# Altium footprint library LM2596.PcbLib: 1 footprints
Each footprint in its own frame and in the unit in brackets; x right, y up, seen from the top. Pads: shape width x height; smd on the part's side, far side on the other; paste and mask are expansions set on the pad; w line width, h text height; cw(c..) or ccw(c..) is an arc to the next point about the centre after c.
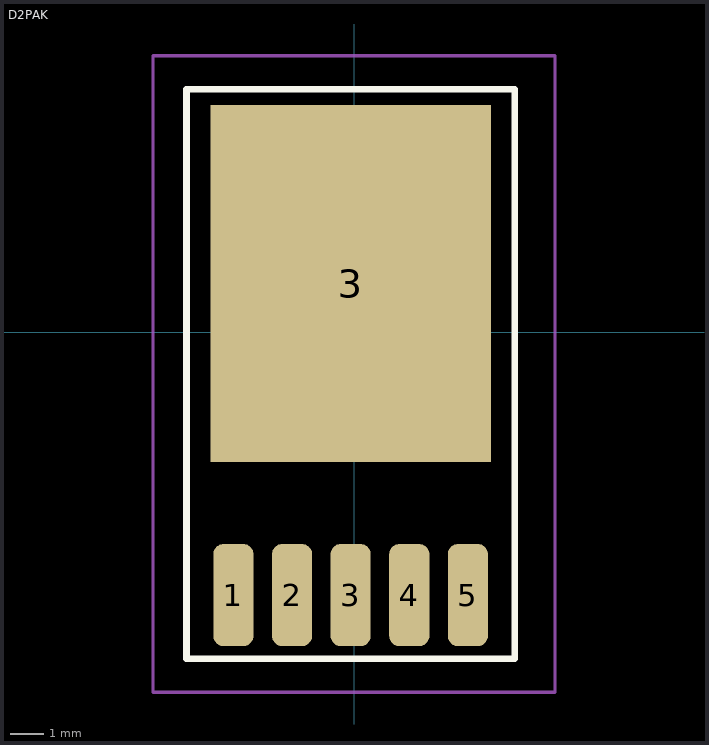
[diagram p0: the footprint, top view; thin cyan lines are the x and y axes]

## D2PAK [mm]
pads (6):
  rrect50% 1.2x3.05 smd: 1(-3.6,-7.85) 2(-1.85,-7.85) 3(-0.1,-7.85) 4(1.65,-7.85) 5(3.4,-7.85)
  rect 8.38x10.66 smd mask+0.102: 3(-0.1,1.45)
Top Overlay:
  lines w0.2: -5,-9.75 -5,7.25 4.8,7.25 4.8,-3.75 4.8,-9.75 -5,-9.75
Mechanical 15:
  lines w0.1: -1.25,0 1,0 ; 0,-1.25 0,1 ; -6,-10.75 6,-10.75 6,-0.75 6,8.25 -6,8.25 -6,3.5 -6,-6 -6,-10.75
3D body "TO263-5-1.stp": height 4.22, standoff 0, extent -5.011,-9.011 4.811,5.591